# Altium footprint library sensorsLib.PcbLib: 10 footprints
Each footprint in its own frame and in the unit in brackets; x right, y up, seen from the top. Pads: shape width x height; smd on the part's side, far side on the other; paste and mask are expansions set on the pad; w line width, h text height; cw(c..) or ccw(c..) is an arc to the next point about the centre after c.
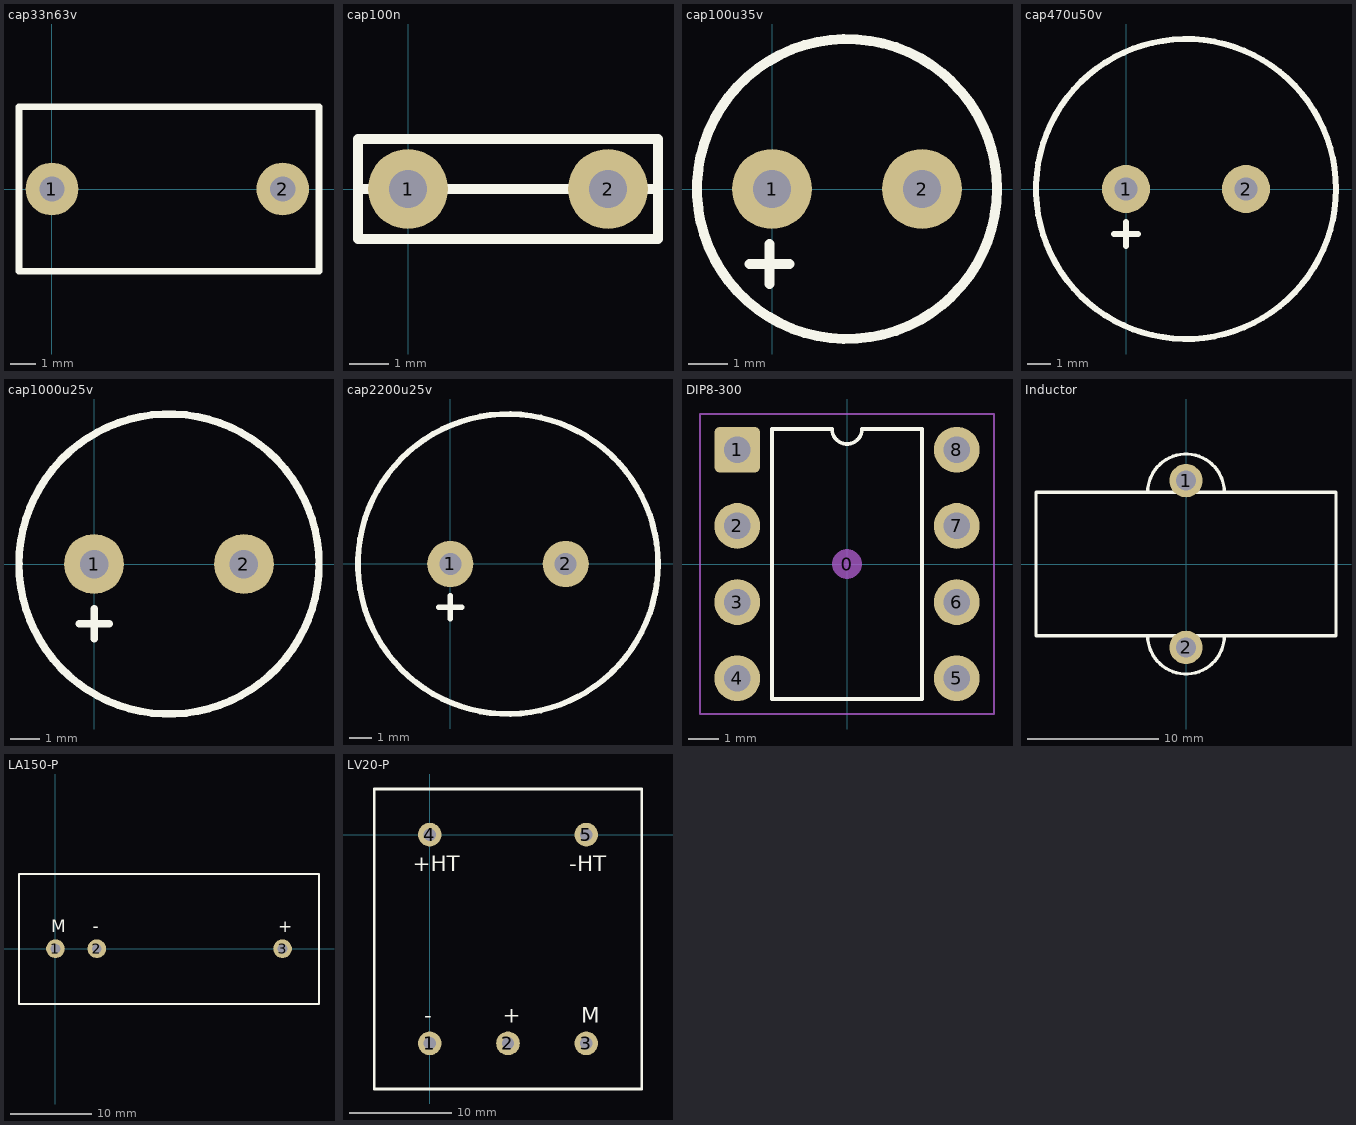
[diagram p0: the footprints below, top view; thin cyan lines are the x and y axes]

## cap33n63v [mil]
pads (2):
  round 80 hole 38: 1(0,0) 2(350,0)
Top Overlay:
  lines w10: -50,-125 -50,125 405,125 405,-125 -50,-125

## cap100n [mil]
pads (2):
  round 80 hole 38: 1(0,0) 2(200,0)
Top Overlay:
  lines w10: -50,0 245,0 ; 35,0 120,0 ; -50,-50 250,-50 250,50 238.75,50 -50,50 -50,-50

## cap100u35v [mil]
pads (2):
  round 80 hole 38: 1(0,0) 2(150,0)
Top Overlay:
  circle w10: c75,0 r150
  lines w10: -22.5,-75 17.5,-75 ; -2.5,-95 -2.5,-55

## cap470u50v [mil]
pads (2):
  round 80 hole 38: 1(0,0) 2(200,0)
Top Overlay:
  circle w10: c100,0 r250
  lines w10: -20,-75 20,-75 ; 0,-95 0,-55

## cap1000u25v [mil]
pads (2):
  round 80 hole 38: 1(0,0) 2(200,0)
Top Overlay:
  circle w10: c100,0 r200
  lines w10: -20,-80 20,-80 ; 0,-100 0,-60

## cap2200u25v [mil]
pads (2):
  round 80 hole 38: 1(0,0) 2(200,0)
Top Overlay:
  circle w10: c100,0 r260
  lines w10: -20,-75 20,-75 ; 0,-95 0,-55

## DIP8-300 [mil] "DIP, 8-Leads, 0.300\" lead span , 0.100\" lead pitch, IPC Density A"
height 210
pads (9):
  round 39.37 on Mech14: 0(0,0)
  rrect25% 60x60 hole 35: 1(-144,150)
  round 60 hole 35: 2(-144,50) 3(-144,-50) 4(-144,-150) 5(144,-150) 6(144,-50) 7(144,50) 8(144,150)
Top Overlay:
  lines w5: -98.43,-177.17 -98.43,177.17 -19.69,177.17 ccw(c0,177.17) 19.69,177.17 98.43,177.17 98.43,-177.17 -98.43,-177.17
Mechanical 13:
  lines w3: -98.43,-177.17 98.43,-177.17 98.43,177.17 19.69,177.17 cw(c0,177.17) -19.69,177.17 -98.43,177.17 -98.43,-177.17
Mechanical 14:
  lines w3: -192.91,-196.85 -192.91,196.85 192.91,196.85 192.91,-196.85 -192.91,-196.85
3D body: height 165, standoff -105, extent -149,-225 161,225

## Inductor [mil] "Toroidal Inductor"
height 915
pads (2):
  round 100 hole 60: 1(0,250) 2(0,-250)
Top Overlay:
  lines w10: -115,-215 ccw(c0,-215) 115,-215 ; -115,215 cw(c0,215) 115,215 ; -450,-215 -450,215 450,215 450,-215 -450,-215

## LA150-P [mm] "Current Transducer"
height 33
pads (3):
  round 2.3 hole 1.2: 1(0,0) 2(5.1,0) 3(28,0)
Top Overlay:
  lines w0.254: -4.5,-6.8 32.5,-6.8 32.5,9.2 -4.5,9.2 -4.5,-6.8
  text "+" at 27.492,2.032 h1.52
  text "-" at 4.592,2.032 h1.52
  text "M" at -0.508,2.032 h1.52

## LV20-P [mm] "Voltage Transducer LV 20-P"
height 15.1
pads (5):
  round 2.3 hole 1.2: 1(0,-20.32) 2(7.62,-20.32) 3(15.24,-20.32) 4(0,0) 5(15.24,0)
Top Overlay:
  lines w0.254: -5.38,-24.76 -5.38,4.44 20.62,4.44 20.62,-24.76 -5.38,-24.76
  text "-HT" at 13.589,-3.556 h1.52
  text "+HT" at -1.651,-3.556 h1.52
  text "M" at 14.732,-18.288 h1.52
  text "+" at 7.112,-18.288 h1.52
  text "-" at -0.508,-18.288 h1.52